# Altium integrated library BC548B.IntLib: 1 symbol
Pins are listed as number, name and electrical type; pins without a type are passive.

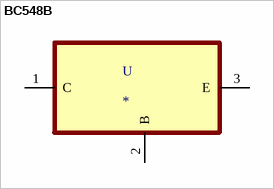
[diagram p0: symbol BC548B]

## BC548B
designator U
Transistor bipolar _BJT_ NPN 30V 100mA 300MHz 625mW Agujero pasante TO-92-3; MP: BC548B; MF: ON Semiconductor; Price: None; Availability: Unavailable; Package: TO-92 Motorola; SnapEDA_Link: https://www.snapeda.com/parts/BC548B/ON%20Semiconductor/view-part/697038/?ref=snap; Value: *
footprint TO127P254X732-3
pins: 1 C, 2 B, 3 E